# Altium integrated library Transistors.IntLib: 10 symbols
Pins are listed as number, name and electrical type; pins without a type are passive.

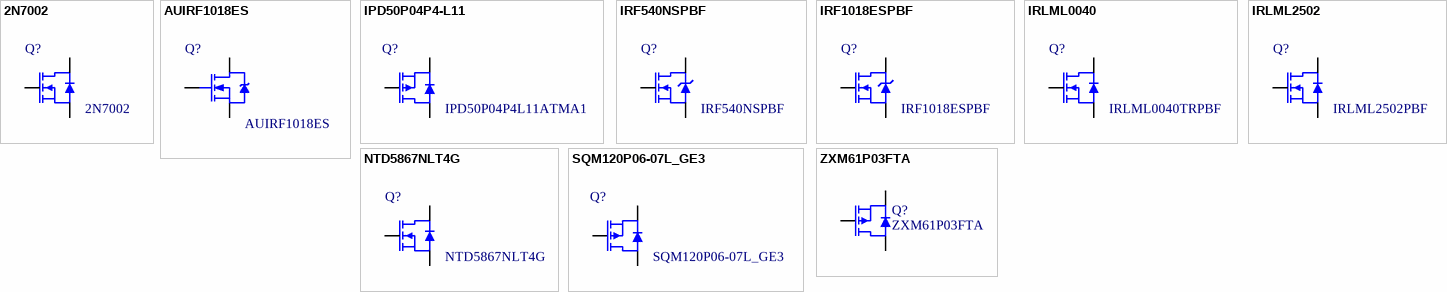
[diagram p0: symbols 2N7002 to ZXM61P03FTA]

## 2N7002
designator Q?
MOSFET N 60V 115MA SOT23; Manufacturer: Changjiang Electronics Tech (CJ); Manufacturer Part Number: 2N7002; ComponentLink1Description: Datasheet; ComponentLink1URL: https://datasheet.lcsc.com/szlcsc/1810151612_Changjiang-Electronics-Tech-CJ-2N7002_C8545.pdf; Supplier 2: JLCPCB; Supplier Part Number 2: C8545; Supplier 1: Farnell; Supplier Part Number 1: 1510761; Supplier Footprint 2: SOT-23-3
footprint SOT-23
pins: 1 G, 2 S, 3 D

## AUIRF1018ES
designator Q?
MOSFET N 60V 79A D2PAK; Manufacturer: Infineon Technologies; Supplier 1: Farnell; Manufacturer Part Number: AUIRF1018ES; ComponentLink1URL: http://www.irf.com/product-info/datasheets/data/auirf1018es.pdf; ComponentLink1Description: Datasheet; Supplier Part Number 1: 2148048
footprint TO263AB, D2PAK
pins: 1 G, 3 S, 4 D

## IPD50P04P4-L11
designator Q?, comment IPD50P04P4L11ATMA1
MOSFET P 40V 50A DPAK; Manufacturer: INFINEON; Supplier 1: Farnell; Supplier Part Number 1: 2443434; Manufacturer Part Number: IPD50P04P4L11ATMA1; ComponentLink1Description: Datasheet; ComponentLink1URL: http://www.farnell.com/datasheets/1942428.pdf
footprint DPAK
pins: 1 G, 2 S, 4 D

## IRF540NSPBF
designator Q?
MOSFET N 100V 33A D2PAK; Manufacturer: INTERNATIONAL RECTIFIER; Manufacturer Part Number: IRF540NSPBF; ComponentLink1URL: http://www.farnell.com/datasheets/275610.pdf; ComponentLink1Description: Datasheet; Supplier 1: Farnell; Supplier Part Number 1: 8648301
footprint TO263AB, D2PAK
pins: 1 G, 3 S, 4 D

## IRF1018ESPBF
designator Q?
MOSFET N 60V 79A D2PAK; Manufacturer: Infineon Technologies; Supplier 1: Farnell; Supplier Part Number 1: 1602225; Manufacturer Part Number: IRF1018ESPBF; ComponentLink1URL: http://www.irf.com/product-info/datasheets/data/irf1018epbf.pdf; ComponentLink1Description: Datasheet
footprint TO263AB, D2PAK
pins: 1 G, 3 S, 4 D

## IRLML0040
designator Q?, comment IRLML0040TRPBF
MOSFET N 40V 3.6A SOT23; Manufacturer: INTERNATIONAL RECTIFIER; Supplier 1: Farnell; Supplier Part Number 1: 1831088; Manufacturer Part Number: IRLML0040TRPBF; ComponentLink1Description: Datasheet; ComponentLink1URL: http://www.irf.com/product-info/datasheets/data/irlml0040pbf.pdf
footprint SOT-23
pins: 1 G, 2 S, 3 D

## IRLML2502
designator Q?, comment IRLML2502PBF
MOSFET N 20V 4.2A SOT23; Manufacturer: INTERNATIONAL RECTIFIER; ComponentLink1Description: Datasheet; ComponentLink1URL: http://www.farnell.com/datasheets/1912230.pdf; Manufacturer Part Number: IRLML2502PBF; Supplier 1: Farnell; Supplier Part Number 1: 9102981
footprint SOT-23
pins: 1 G, 2 S, 3 D

## NTD5867NLT4G
designator Q?
MOSFET N 60V 20A DPAK; Manufacturer: ON SEMICONDUCTOR; Supplier 1: Farnell; Supplier Part Number 1: 1879964; Manufacturer Part Number: NTD5867NLT4G; ComponentLink1Description: Datasheet; ComponentLink1URL: http://www.onsemi.com/pub_link/Collateral/NTD5867NL-D.PDF
footprint DPAK
pins: 1 G, 2 S, 4 D

## SQM120P06-07L_GE3
designator Q?
MOSFET P 60V 120A D2PAK; Manufacturer: VISHAY; Manufacturer Part Number: SQM120P06-07L_GE3; ComponentLink1Description: Datasheet; ComponentLink1URL: http://www.vishay.com/docs/67026/sqm120p0.pdf; Supplier 1: Farnell; Supplier Part Number 1: 2617099
footprint TO263AB, D2PAK
pins: 1 G, 3 S, 4 D

## ZXM61P03FTA
designator Q?
MOSFET P-CH 30V 1.1A SOT23-3; Manufacturer: Diodes Incorporated; Manufacturer Part Number: ZXM61P03FTA; ComponentLink1Description: Datasheet; ComponentLink1URL: https://www.diodes.com/assets/Datasheets/ZXM61P03F.pdf; Supplier Footprint 2: SOT-23-3; Supplier 2: JLCPCB; Supplier 1: Rs; Supplier Part Number 2: C156274; Supplier Part Number 1: 9227673; Supplier 3: Evolutek
footprint SOT-23
pins: 1 G, 2 S, 3 D